# Altium schematic symbol library SCH - DRIVER - 2EDF7275KXUMA1.Schlib: 1 symbol
Pins are listed as number, name and electrical type; pins without a type are passive.

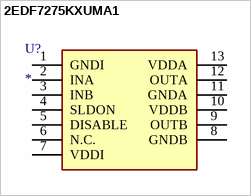
[diagram p0: symbol 2EDF7275KXUMA1]

## 2EDF7275KXUMA1
designator U?
Integrated Circuit
pins: 1 GNDI, 2 INA, 3 INB, 4 SLDON, 5 DISABLE, 6 N.C., 7 VDDI, 8 GNDB, 9 OUTB, 10 VDDB, 11 GNDA, 12 OUTA, 13 VDDA